# EAGLE library part SS-10-16SP-AE (library SS-10-16SP-AE)
Copal Electronics SS-10, 6 Position SP6T Rotary Switch, 100 mA, Solder Source: Datasheet <https://www.nidec-copal-electronics.com/e/catalog/switch/ss-10&s-2050.pdf>
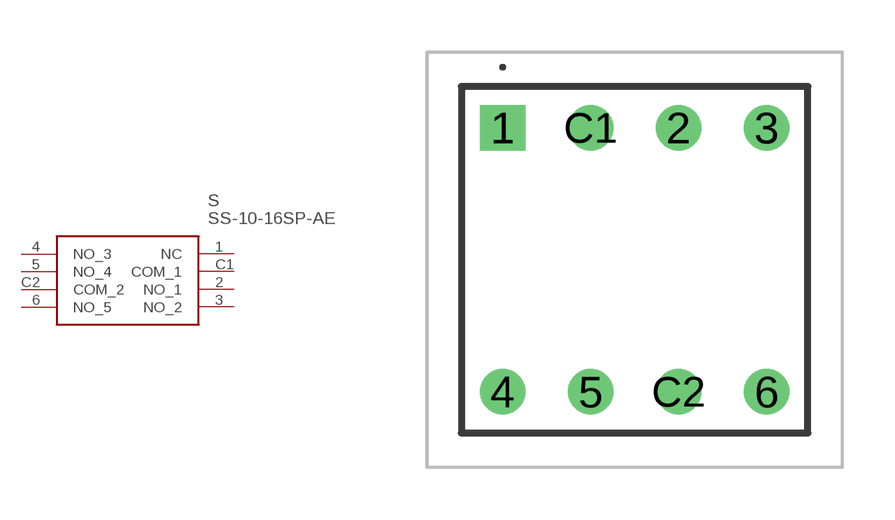
[diagram p0: symbol with the pads of SS1016SPAE; footprint SS1016SPAE]

Designator prefix S

## SS-10-16SP-AE (Description: Copal Electronics SS-10, 6 Position SP6T Rotary Switch, 100 mA, Solder; Height: 7.3mm; Manufacturer_Name: Nidec Copal; Manufacturer_Part_Number: SS-10-16SP-AE; Mouser_Part_Number: 229-SS-10-16SP-AE; Mouser_Price-Stock: https://www.mouser.co.uk/ProductDetail/Nidec-Copal/SS-10-16SP-AE?qs=XeJtXLiO41Q7idip%252BN9FXA%3D%3D)  [SS1016SPAE]
1  NC  nc
2  NO_1
3  NO_2
4  NO_3
5  NO_4
6  NO_5
C1  COM_1
C2  COM_2

## Footprint SS1016SPAE (pad centres in mm)
SS-10-16SP-AE-3
drill 0.8 pad 1.3 square: 1 0,0
drill 0.8 pad 1.3: 2 5.08,0; 3 7.62,0; 4 0,-7.62; 5 2.54,-7.62; 6 7.62,-7.62; C1 2.54,0; C2 5.08,-7.62